# Altium footprint library Carte_design_PCBLib.PcbLib: 39 footprints (part 1 of 3)
Each footprint in its own frame and in the unit in brackets; x right, y up, seen from the top. Pads: shape width x height; smd on the part's side, far side on the other; paste and mask are expansions set on the pad; w line width, h text height; cw(c..) or ccw(c..) is an arc to the next point about the centre after c.
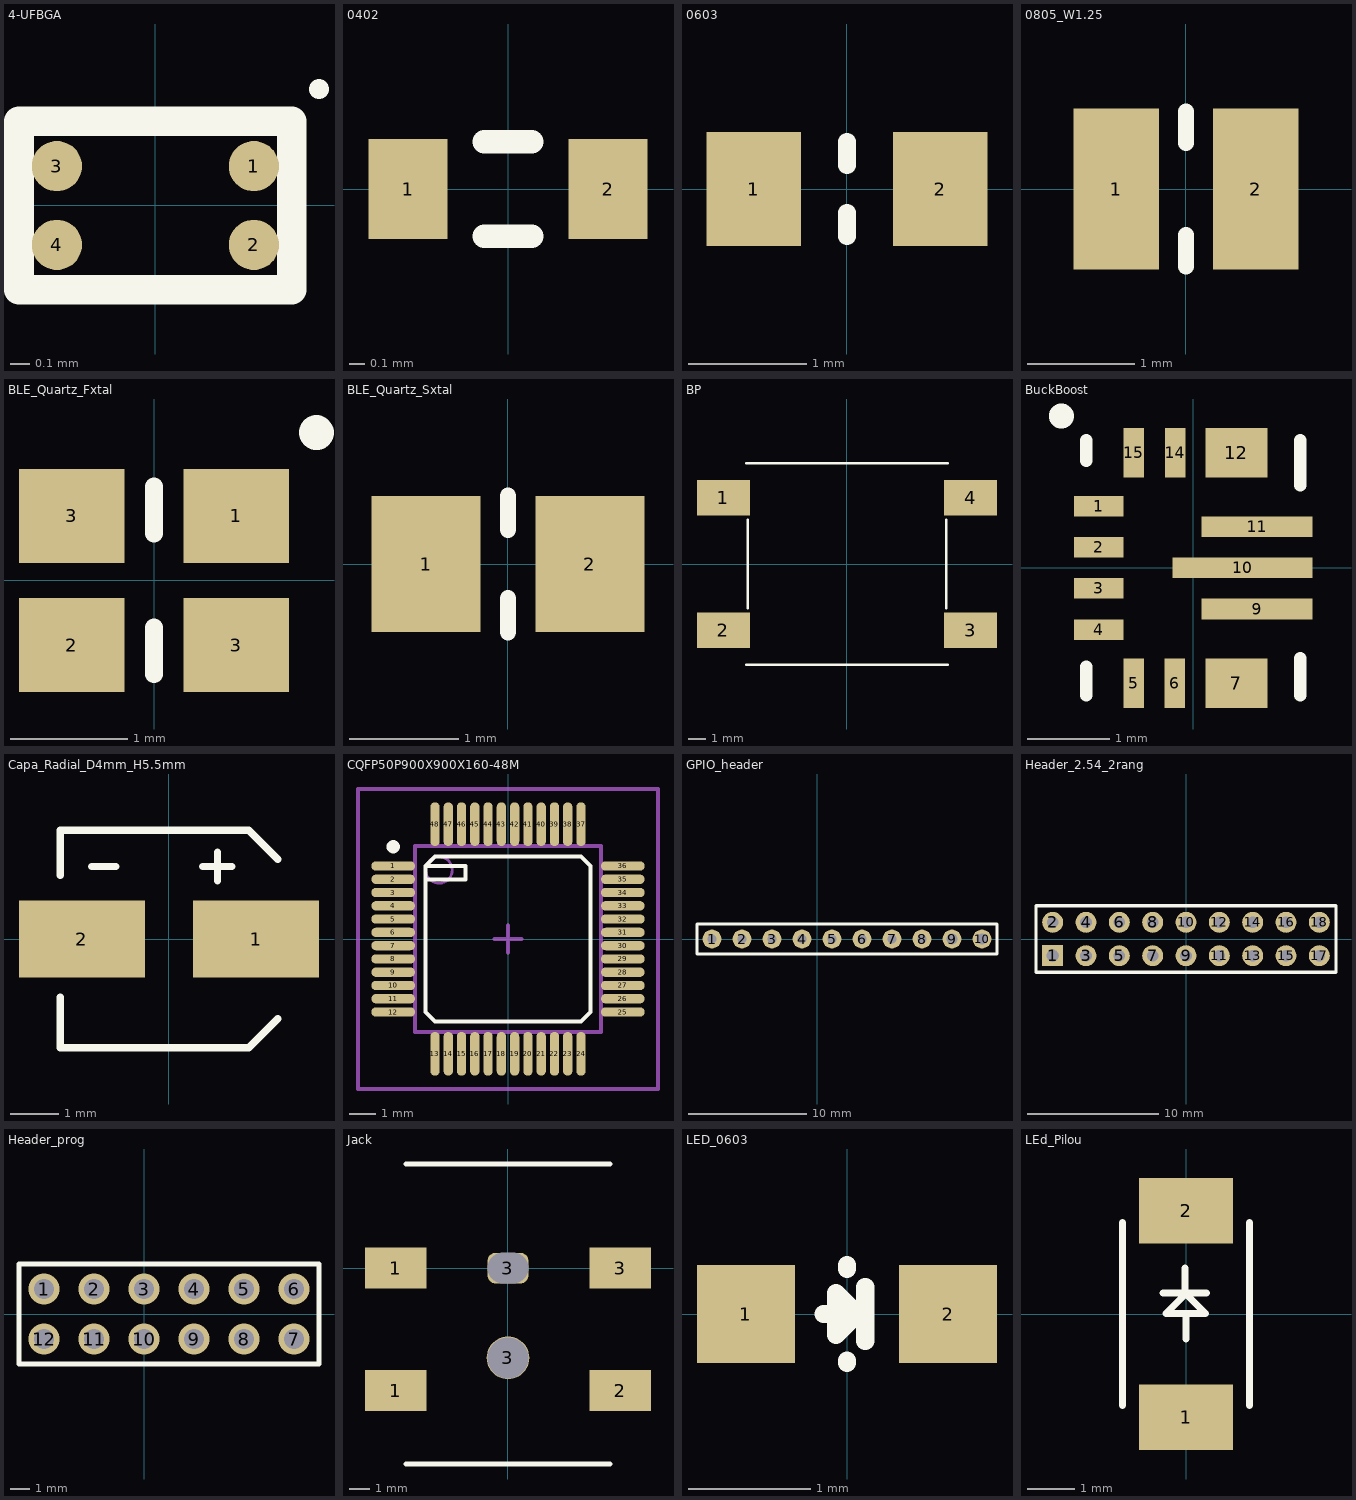
[diagram p0: the footprints below, top view; thin cyan lines are the x and y axes]

## 4-UFBGA [mm]
pads (4):
  round 0.255 smd: 1(0.5,0.2) 2(0.5,-0.2) 3(-0.5,0.2) 4(-0.5,-0.2)
Top Overlay:
  lines w0.1: 0.83,0.59 ccw(c0.827,0.591) 0.83,0.591
  lines w0.15: -0.693,-0.427 0.693,-0.427 0.693,0.427 -0.693,0.427 -0.693,-0.427
3D body "User Library-CSPG.STEP": height 0.55, standoff -0.05, extent -0.692,-0.425 0.693,0.43

## 0402 [mm]
pads (2):
  rect 0.5x0.635 smd: 1(-0.635,0) 2(0.635,0)
Top Overlay:
  lines w0.15: -0.15,-0.3 0.15,-0.3 ; -0.15,0.3 0.15,0.3
3D body "cga0402mlc-05g.stp": height 0.38, standoff 0.02, extent -0.5,-0.25 0.5,0.25

## 0603 [mm]
pads (2):
  rect 0.8x0.965 smd: 1(-0.787,0) 2(0.788,0)
Top Overlay:
  lines w0.15: 0,-0.4 0,-0.2 ; 0,0.2 0,0.4
3D body "CircuitWorks-RESISTOR 0603.step": height 0.53, standoff 0.02, extent -0.8,-0.43 0.8,0.43

## 0805_W1.25 [mm]
pads (2):
  rect 0.8x1.5 smd: 1(-0.65,0) 2(0.65,0)
Top Overlay:
  lines w0.15: 0,-0.43 0,-0.725 ; 0,0.43 0,0.725 ; 0,-0.725 0,-0.725
3D body "CircuitWorks-RESISTOR 0603.step": height 0.53, standoff 0.02, extent -0.8,-0.43 0.8,0.43

## BLE_Quartz_Fxtal [mm]
pads (4):
  rect 0.9x0.8 smd: 1(0.7,0.55) 2(-0.7,-0.55) 3(-0.7,0.55) 3(0.7,-0.55)
Top Overlay:
  lines w0.15: 0,-0.8 0,-0.4 ; 0,0.4 0,0.8
  lines w0.254: 1.392,1.279 ccw(c1.384,1.26) 1.405,1.263
3D body "User Library-CX2016DB16000D0GPSC1.STEP": height 0.45, standoff 0.05, extent -1,-0.8 1,0.8

## BLE_Quartz_Sxtal [mm]
pads (2):
  rect 1x1.25 smd: 1(-0.75,0) 2(0.75,0)
Top Overlay:
  lines w0.15: 0,-0.625 0,-0.312 ; 0,0.312 0,0.625

## BP [mm]
pads (4):
  rect 3x2 smd: 1(-7,3.75) 2(-7,-3.75) 3(7,-3.75) 4(7,3.75)
Top Overlay:
  lines w0.15: -5.7,-5.7 5.7,-5.7 ; -5.7,5.7 5.7,5.7 ; -5.625,-2.5 -5.625,2.5 ; 5.625,-2.5 5.625,2.5

## BuckBoost [mm]
pads (13):
  rect 0.6x0.25 smd mask+0.13: 1(-1.15,0.75) 2(-1.15,0.25) 3(-1.15,-0.25) 4(-1.15,-0.75)
  rect 0.25x0.6 smd mask+0.13: 5(-0.725,-1.4) 6(-0.225,-1.4) 14(-0.221,1.4) 15(-0.725,1.4)
  rect 0.75x0.6 smd mask+0.13: 7(0.525,-1.4) 12(0.525,1.4)
  rect 1.35x0.25 smd mask+0.13: 9(0.775,-0.5) 11(0.775,0.5)
  rect 1.7x0.25 smd mask+0.13: 10(0.6,0)
Top Overlay:
  circle w0.254: c-1.602,1.844 r0.025
  lines w0.15: -1.3,-1.55 -1.3,-1.2 ; -1.3,1.3 -1.3,1.55 ; 1.3,-1.55 1.3,-1.1 ; 1.3,1 1.3,1.55 1.3,1

## Capa_Radial_D4mm_H5.5mm [mm]
pads (2):
  rect 2.6x1.6 smd: 1(1.8,0) 2(-1.8,0)
Top Overlay:
  lines w0.15: -2.25,-1.2 -2.25,-2.25 1.65,-2.25 2.25,-1.65 ; -2.25,1.313 -2.25,2.25 1.65,2.25 2.25,1.65 ; -1.6,1.5 -1.1,1.5 ; 0.7,1.5 1.3,1.5 ; 1,1.2 1,1.8
3D body "User Library-CAPSMD4x5_5.STEP": height 5.57, standoff -0.35, extent -2.848,-2.16 2.79,2.159

## CQFP50P900X900X160-48M [mm] "CQFP, 48-Leads, Body 9,00x9,00mm, Pitch 0,50mm, IPC Low Density"
height 1.6
pads (48):
  oval 1.65x0.35 smd: 1(-4.325,2.75) 2(-4.325,2.25) 3(-4.325,1.75) 4(-4.325,1.25) 5(-4.325,0.75) 6(-4.325,0.25) 7(-4.325,-0.25) 8(-4.325,-0.75) 9(-4.325,-1.25) 10(-4.325,-1.75) 11(-4.325,-2.25) 12(-4.325,-2.75) 25(4.325,-2.75) 26(4.325,-2.25) 27(4.325,-1.75) 28(4.325,-1.25) 29(4.325,-0.75) 30(4.325,-0.25) 31(4.325,0.25) 32(4.325,0.75) 33(4.325,1.25) 34(4.325,1.75) 35(4.325,2.25) 36(4.325,2.75)
  oval 0.35x1.65 smd: 13(-2.75,-4.325) 14(-2.25,-4.325) 15(-1.75,-4.325) 16(-1.25,-4.325) 17(-0.75,-4.325) 18(-0.25,-4.325) 19(0.25,-4.325) 20(0.75,-4.325) 21(1.25,-4.325) 22(1.75,-4.325) 23(2.25,-4.325) 24(2.75,-4.325) 37(2.75,4.325) 38(2.25,4.325) 39(1.75,4.325) 40(1.25,4.325) 41(0.75,4.325) 42(0.25,4.325) 43(-0.25,4.325) 44(-0.75,4.325) 45(-1.25,4.325) 46(-1.75,4.325) 47(-2.25,4.325) 48(-2.75,4.325)
Top Overlay:
  circle w0.25: c-4.325,3.475 r0.125
  lines w0.15: -3.1,2.25 -1.6,2.25 -1.6,2.75 -3.1,2.75 ; -3.1,2.75 -3.1,-2.75 -2.75,-3.1 2.75,-3.1 3.1,-2.75 3.1,2.75 2.75,3.1 -2.75,3.1 -3.1,2.75
Mechanical 13:
  circle w0.1: c-2.6,2.6 r0.5
  lines w0.15: -3.5,-3.5 -3.5,3.5 3.5,3.5 3.5,-3.5 -3.5,-3.5
Mechanical 15:
  lines w0.15: -0.5,0 0.5,0 ; 0,-0.5 0,0.5 ; -5.65,-5.65 -5.65,5.65 5.65,5.65 5.65,-5.65 -5.65,-5.65
3D body: height 1.6, standoff 0.05, extent -3.5,-3.5 3.5,3.5

## GPIO_header [mm]
pads (10):
  round 1.6 hole 0.8: 1(-8.89,0) 2(-6.35,0) 3(-3.81,0) 4(-1.27,0) 5(1.27,0) 6(3.81,0) 7(6.35,0) 8(8.89,0)
  round 1.6 hole 0.9: 9(11.43,0) 10(13.97,0)
Top Overlay:
  lines w0.254: -10.16,-1.27 15.24,-1.27 15.24,1.27 -10.16,1.27 -10.16,-1.27
3D body "pcb_connector_801-87-010-66-001101.stp": height 7, standoff -3.8, extent -10.16,-1.27 15.24,1.27

## Header_2.54_2rang [mm]
pads (18):
  rect 1.6x1.6 hole 0.9: 1(-10.16,-1.27)
  round 1.6 hole 0.9: 2(-10.16,1.27) 3(-7.62,-1.27) 4(-7.62,1.27) 5(-5.08,-1.27) 6(-5.08,1.27) 7(-2.54,-1.27) 8(-2.54,1.27) 9(0,-1.27) 10(0,1.27) 11(2.54,-1.27) 12(2.54,1.27) 13(5.08,-1.27) 14(5.08,1.27) 15(7.62,-1.27) 16(7.62,1.27) 17(10.16,-1.27) 18(10.16,1.27)
Top Overlay:
  lines w0.254: -11.43,-2.54 11.43,-2.54 11.43,2.54 -11.43,2.54 -11.43,-2.54
3D body "female_header_a-bl254-da-g18d.stp": height 5.1, standoff -3.1, extent -11.555,-11.1 11.555,1.5

## Header_prog [mm]
pads (12):
  round 1.6 hole 1: 1(-5.08,1.27) 2(-2.54,1.27) 3(0,1.27) 4(2.54,1.27) 5(5.08,1.27) 6(7.62,1.27) 7(7.62,-1.27) 8(5.08,-1.27) 9(2.54,-1.27) 10(0,-1.27) 11(-2.54,-1.27) 12(-5.08,-1.27)
Top Overlay:
  lines w0.254: -6.35,-2.54 8.89,-2.54 8.89,2.54 -6.35,2.54 -6.35,-2.54
3D body "7731311812lf.stp": height 8.39, standoff -3.11, extent -6.15,-2.421 8.69,2.409

## Jack [mm]
pads (6):
  rect 3x2 smd: 1(-5.5,-6) 1(-5.5,0) 2(5.5,-6) 3(5.5,0)
  round 2.1 hole 2: 3(0,-4.4)
  rrect50% 2x1.5 hole 2 slot 1.5 at 90 deg: 3(0,0)
Top Overlay:
  lines w0.254: -5,-9.6 5,-9.6 ; -5,5.1 5,5.1

## LED_0603 [mm]
pads (2):
  rect 0.8x0.8 smd: 1(-0.825,0) 2(0.825,0)
Top Overlay:
  lines w0.15: -0.09,0 -0.19,0 0.15,0 ; 0,-0.4 0,-0.38 ; 0,0.37 0,0.4 ; 0.15,-0.22 0.15,0.22 ; -0.09,-0.17 -0.09,0.17 0.08,0 -0.09,-0.17
3D body "User Library-LED SMD0603.step": height 0.68, standoff 0, extent -0.838,-0.368 0.812,0.357

## LEd_Pilou [mm]
pads (2):
  rect 2x1.4 smd: 1(0,-2.2) 2(0,2.2)
Top Overlay:
  lines w0.15: -1.35,-1.95 -1.35,1.95 ; -0.49,0.45 0.44,0.45 -0.02,0.45 ; -0.02,0.98 -0.02,0.45 ; -0.005,-0.535 -0.005,0.01 ; 1.35,-1.95 1.35,1.95 ; -0.02,0.45 -0.02,0.42 -0.43,0.01 0.42,0.01 -0.02,0.45